# Altium footprint library 401_14-5-1.PcbLib: 1 footprints
Each footprint in its own frame and in the unit in brackets; x right, y up, seen from the top. Pads: shape width x height; smd on the part's side, far side on the other; paste and mask are expansions set on the pad; w line width, h text height; cw(c..) or ccw(c..) is an arc to the next point about the centre after c.
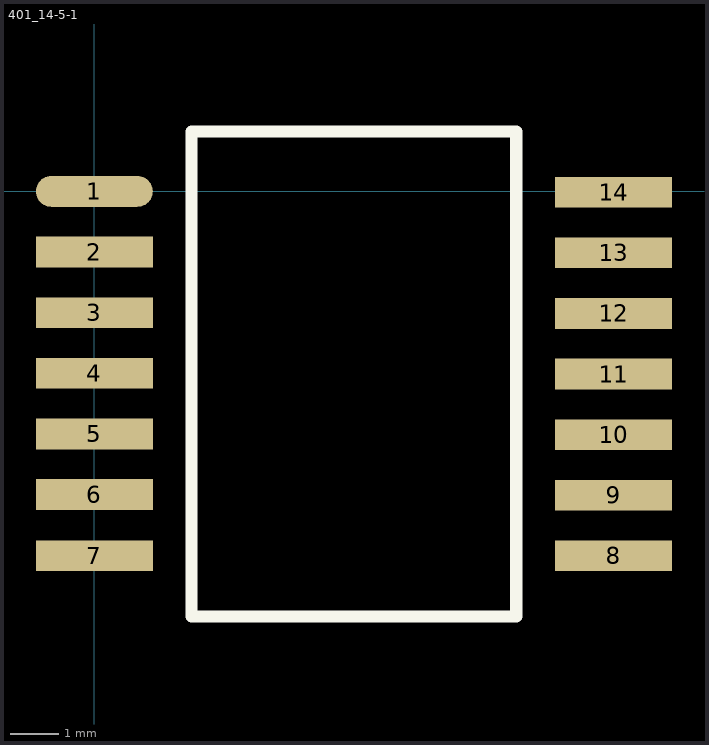
[diagram p0: the footprint, top view; thin cyan lines are the x and y axes]

## 401_14-5-1 [mm]
pads (14):
  oval 2.413x0.635 smd: 1(0,0)
  rect 2.413x0.635 smd: 2(0,-1.25) 3(0,-2.5) 4(0,-3.75) 5(0,-5) 6(0,-6.25) 7(0.003,-7.514) 8(10.709,-7.514) 9(10.71,-6.265) 10(10.71,-5.015) 11(10.71,-3.765) 12(10.71,-2.515) 13(10.71,-1.265) 14(10.71,-0.015)
Top Overlay:
  lines w0.254: 2.003,-8.764 8.703,-8.764 8.703,1.236 2.003,1.236 2.003,-8.764
3D body "401_14-5.step": height 1.2, standoff -0.2, extent 0.45,-8.75 10.35,1.25
3D body: height 2.54, standoff -2.54, extent 0.225,0.075 0.225,0.075